# Altium footprint library JST BM08B-SRSS-TB.PCBLIB: 1 footprints
Each footprint in its own frame and in the unit in brackets; x right, y up, seen from the top. Pads: shape width x height; smd on the part's side, far side on the other; paste and mask are expansions set on the pad; w line width, h text height; cw(c..) or ccw(c..) is an arc to the next point about the centre after c.
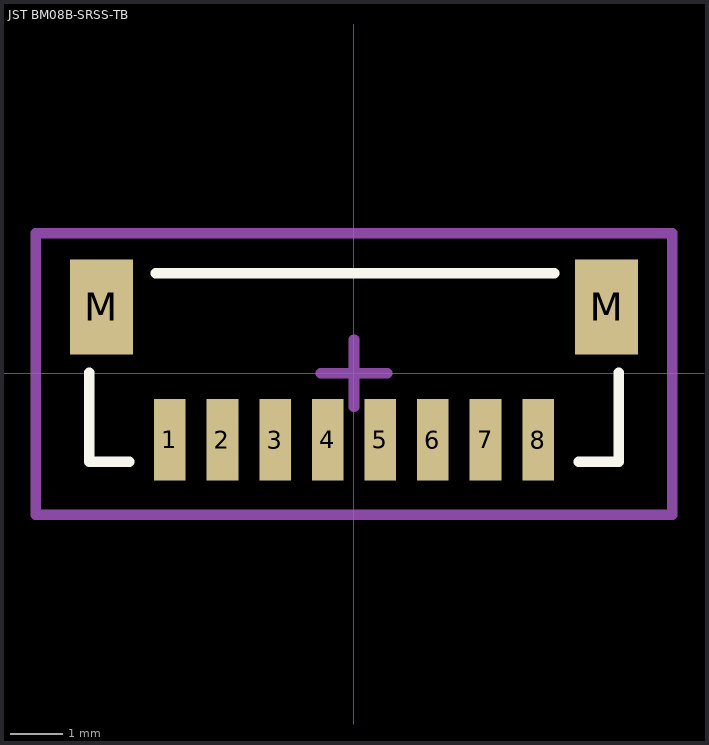
[diagram p0: the footprint, top view; thin cyan lines are the x and y axes]

## JST BM08B-SRSS-TB [mm] "1.0mm pitch/Disconnectable Crimp style connector"
height 2.95
pads (10):
  rect 0.6x1.55 smd: 1(-3.5,-1.262) 2(-2.5,-1.262) 3(-1.5,-1.262) 4(-0.5,-1.262) 5(0.5,-1.262) 6(1.5,-1.262) 7(2.5,-1.262) 8(3.5,-1.262)
  rect 1.2x1.8 smd: M(-4.8,1.262) M(4.8,1.262)
Top Overlay:
  lines w0.2: -5.032,0.008 -5.032,-1.676 -4.27,-1.676 ; -3.77,1.905 3.81,1.905 ; 4.27,-1.676 5.032,-1.676 5.032,0.008
Mechanical 15:
  lines w0.2: -0.635,0 0.635,0 ; 0,-0.635 0,0.635 ; -6.048,-2.692 -6.048,2.667 6.048,2.667 6.048,-2.692 -6.048,-2.692
3D body "JST BM08B-SRSS-TB.STEP": height 4.32, standoff 0, extent -5,-1.688 5,1.912